# EAGLE library part CF_CMM_SOCKET2 (library parts)
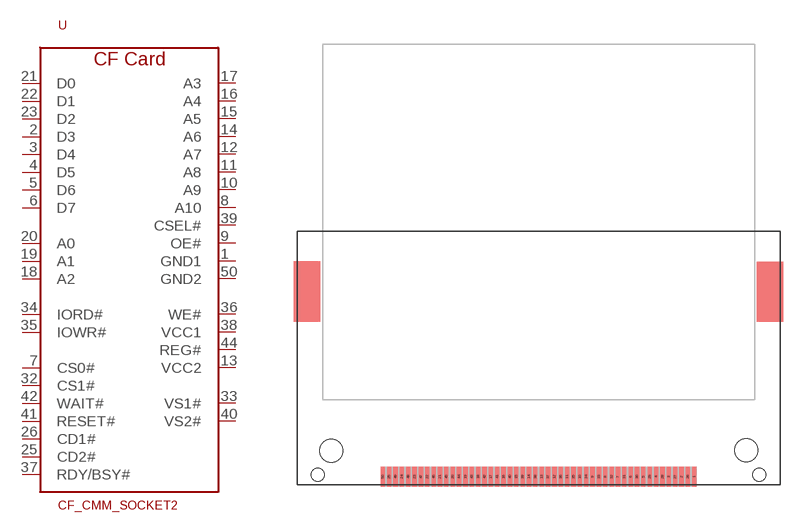
[diagram p0: symbol with the pads of CF_SOCKET2_SMT; footprint CF_SOCKET2_SMT]

Designator prefix -

## CF_CMM_SOCKET2  [CF_SOCKET2_SMT]
1  GND1  in
2  D3
3  D4
4  D5
5  D6
6  D7
7  CS0#  in
8  A10  in
9  OE#  in
10  A9  in
11  A8  in
12  A7  in
13  VCC2  in
14  A6  in
15  A5  in
16  A4  in
17  A3  in
18  A2  in
19  A1  in
20  A0  in
21  D0
22  D1
23  D2
25  CD2#  oc
26  CD1#  oc
32  CS1#  in
33  VS1#  in
34  IORD#  in
35  IOWR#  in
36  WE#  in
37  RDY/BSY#  out
38  VCC1  in
39  CSEL#  in
40  VS2#  in
41  RESET#  in
42  WAIT#  out
44  REG#  in
50  GND2  in

## Footprint CF_SOCKET2_SMT (pad centres in mm)
Type I CF Card Socket Molex 53856-5010
smd 0.42 x 2: 1 15.545,-17.805; 2 14.275,-17.805; 3 13.005,-17.805; 4 11.735,-17.805; 5 10.465,-17.805; 6 9.195,-17.805; 7 7.925,-17.805; 8 6.655,-17.805; 9 5.385,-17.805; 10 4.115,-17.805; 11 2.845,-17.805; 12 1.575,-17.805; 13 0.305,-17.805; 14 -0.965,-17.805; 15 -2.235,-17.805; 16 -3.505,-17.805; 17 -4.775,-17.805; 18 -6.045,-17.805; 19 -7.315,-17.805; 20 -8.585,-17.805; 21 -9.855,-17.805; 22 -11.125,-17.805; 23 -12.395,-17.805; 24 -13.665,-17.805; 25 -14.935,-17.805; 26 14.91,-17.805; 27 13.64,-17.805; 28 12.37,-17.805; 29 11.1,-17.805; 30 9.83,-17.805; 31 8.56,-17.805; 32 7.29,-17.805; 33 6.02,-17.805; 34 4.75,-17.805; 35 3.48,-17.805; 36 2.21,-17.805; 37 0.94,-17.805; 38 -0.33,-17.805; 39 -1.6,-17.805; 40 -2.87,-17.805; 41 -4.14,-17.805; 42 -5.41,-17.805; 43 -6.68,-17.805; 44 -7.95,-17.805; 45 -9.22,-17.805; 46 -10.49,-17.805; 47 -11.76,-17.805; 48 -13.03,-17.805; 49 -14.3,-17.805; 50 -15.57,-17.805
hole 2.3 at 20.747,-15.177
hole 2.3 at -20.72,-15.208
hole 1.27 at -22.062,-17.6
hole 1.27 at 22.048,-17.6